# EAGLE library part CON10P2R (library ads4)
10-pin dual-row connector
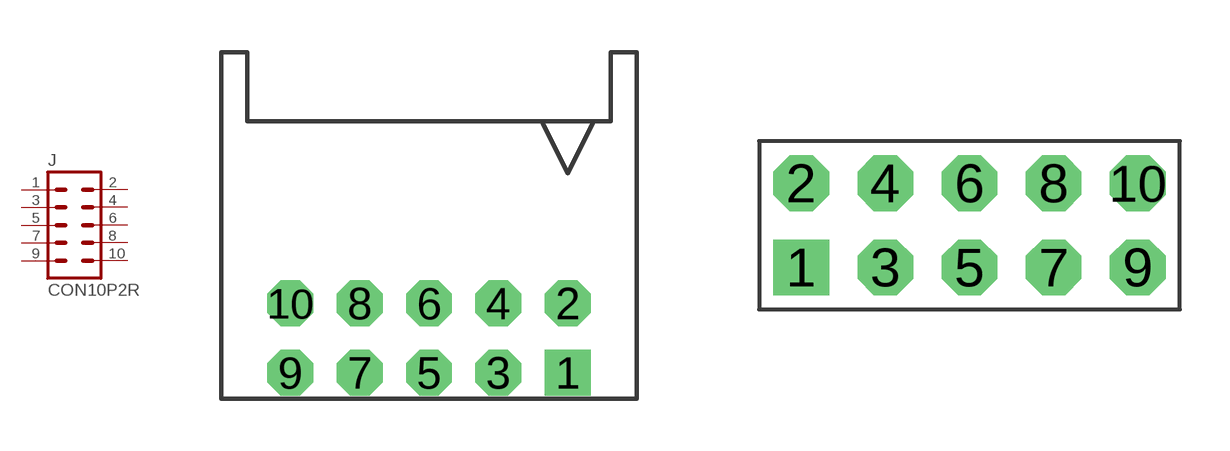
[diagram p10: symbol with the pads of DF11-10DP-2DS; footprints DF11-10DP-2DS, CON10P2R]

Designator prefix J

## CON10P2RDF11  [DF11-10DP-2DS]
1  1  pas
2  2  pas
3  3  pas
4  4  pas
5  5  pas
6  6  pas
7  7  pas
8  8  pas
9  9  pas
10  10  pas

## CON10P2RP  [CON10P2R]
Pads as for DF11-10DP-2DS

## CON10P2RDF1B  [DF1B-10P2R]
Pads as for DF11-10DP-2DS

## CON10P2RAMP770971  [AMP770971]
Pads as for DF11-10DP-2DS

## CON10P2R87833-1020  [87833-1020]
Pads as for DF11-10DP-2DS

## Footprint DF11-10DP-2DS (pad centres in mm)
Hirose 10-pin Dual-Row 2mm Connector
drill 0.813 square: 1 4,-1
drill 0.813 octagon: 2 4,1; 3 2,-1; 4 2,1; 5 0,-1; 6 0,1; 7 -2,-1; 8 -2,1; 9 -4,-1; 10 -4,1

## Footprint CON10P2R (pad centres in mm)
10-pin dual-row connector
drill 1.016 pad 1.676 square: 1 -5.08,-1.27
drill 1.016 pad 1.676 octagon: 2 -5.08,1.27; 3 -2.54,-1.27; 4 -2.54,1.27; 5 0,-1.27; 6 0,1.27; 7 2.54,-1.27; 8 2.54,1.27; 9 5.08,-1.27; 10 5.08,1.27

## Footprint DF1B-10P2R (pad centres in mm)
Hirose 2.5mm 10-pin dual-row connector
drill 1.1 square: 1 2.5,-1.25
drill 1.1 octagon: 2 2.5,1.25; 3 0,-1.25; 4 0,1.25; 5 -2.5,-1.25; 6 -2.5,1.25; 7 -5,-1.25; 8 -5,1.25; 9 -7.5,-1.25; 10 -7.5,1.25

## Footprint AMP770971 (pad centres in mm)
AMP 10-pin dual-row right-angle 4.14mm header
drill 1.48 square: 1 8.37,2.54
drill 1.48 octagon: 2 4.23,2.54; 3 0.09,2.54; 4 -4.05,2.54; 5 -8.19,2.54; 6 8.37,-1.6; 7 4.23,-1.6; 8 0.09,-1.6; 9 -4.05,-1.6; 10 -8.19,-1.6
hole 3.86 at 0.09,-8.94

## Footprint 87833-1020 (pad centres in mm)
Molex 87833-1020 2mm dual-row 10-pin right-angle connector
drill 0.9 pad 1.499 octagon: 1 -4,-1; 2 -4,1; 3 -2,-1; 4 -2,1; 5 0,-1; 6 0,1; 7 2,-1; 8 2,1; 9 4,-1; 10 4,1